# Altium footprint library XETA9.PcbLib: 1 footprints
Each footprint in its own frame and in the unit in brackets; x right, y up, seen from the top. Pads: shape width x height; smd on the part's side, far side on the other; paste and mask are expansions set on the pad; w line width, h text height; cw(c..) or ccw(c..) is an arc to the next point about the centre after c.
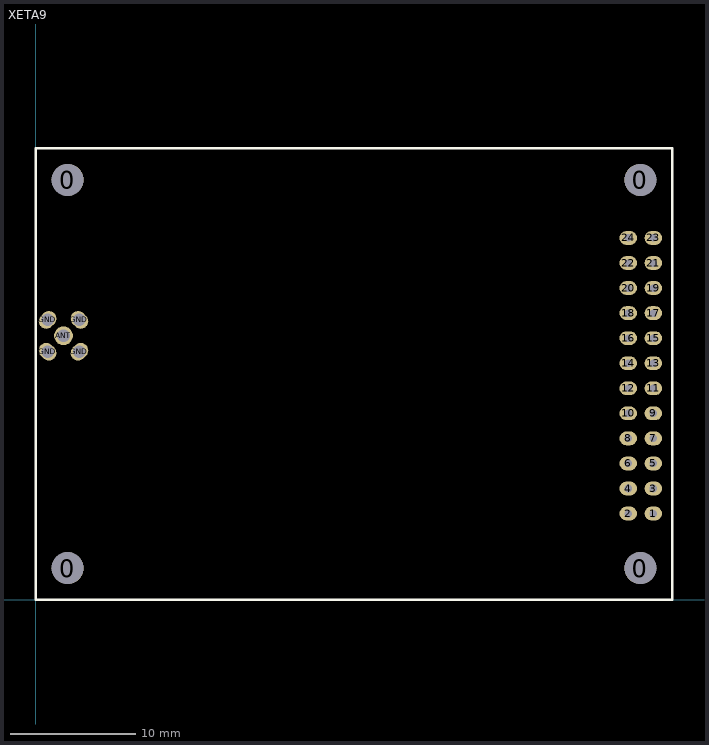
[diagram p0: the footprint, top view; thin cyan lines are the x and y axes]

## XETA9 [mm]
pads (33):
  round 2.54 hole 2.54 unplated: 0(2.54,2.54) 0(2.54,33.528) 0(48.26,2.54) 0(48.26,33.528)
  oval 1.4x1.1 hole 0.6: 1(49.294,6.894) 2(47.294,6.894) 3(49.294,8.894) 4(47.294,8.894) 5(49.294,10.894) 6(47.294,10.894) 7(49.294,12.894) 8(47.294,12.894) 9(49.294,14.894) 10(47.294,14.894) 11(49.294,16.894) 12(47.294,16.894) 13(49.294,18.894) 14(47.294,18.894) 15(49.294,20.894) 16(47.294,20.894) 17(49.294,22.894) 18(47.294,22.894) 19(49.294,24.894) 20(47.294,24.894) 21(49.294,26.894) 22(47.294,26.894) 23(49.294,28.894) 24(47.294,28.894)
  round 1.5 hole 1: ANT(2.21,21.082)
  oval 1.2x1.5 hole 1 rot 45: GND(0.94,19.812) GND(3.48,22.352)
  oval 1.2x1.5 hole 1 rot 135: GND(0.94,22.352) GND(3.48,19.812)
Top Overlay:
  lines w0.2: 0,0 0,36.068 50.8,36.068 50.8,0 0,0